# EAGLE library part CON_2X25_0.1"_SULLINS_SBH11-PBPC-D25-RA-BK (library WCSMain)
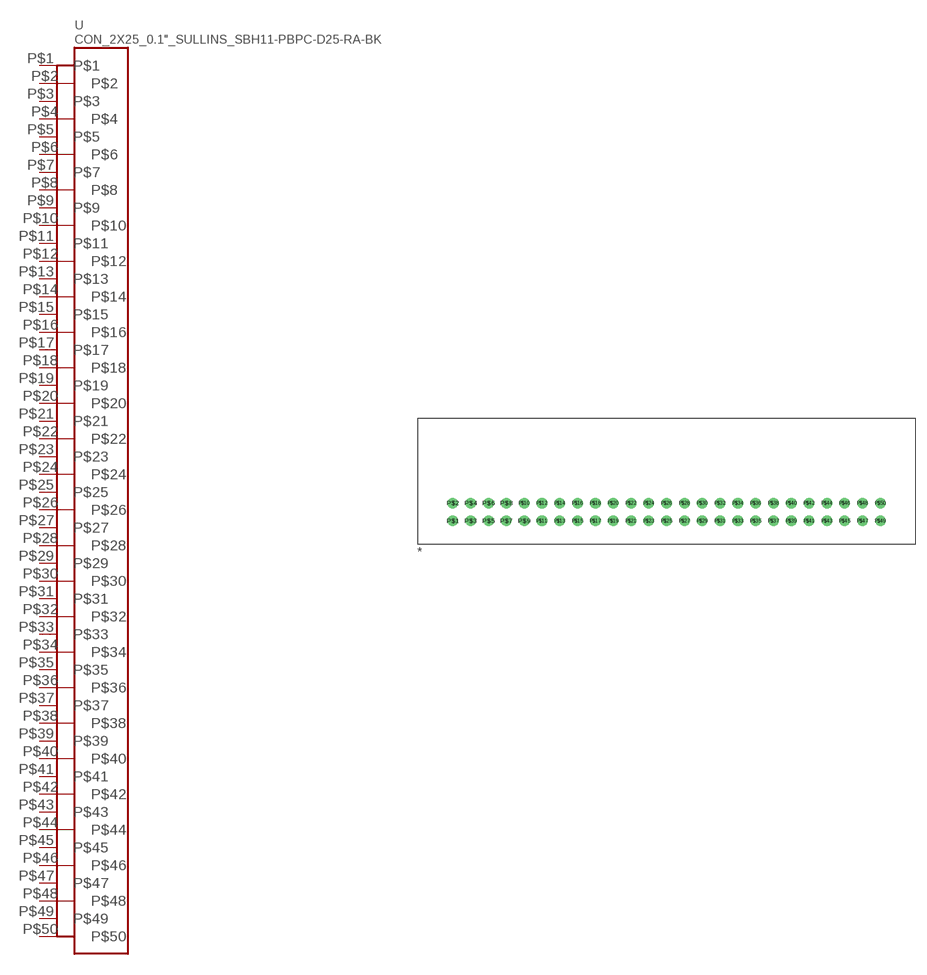
[diagram p22: symbol with the pads of CON_25X2_SULLINS_SBH11-PBPC-D25-RA-BK; footprint CON_25X2_SULLINS_SBH11-PBPC-D25-RA-BK]

Designator prefix -

## CON_2X25_0.1"_SULLINS_SBH11-PBPC-D25-RA-BK  [CON_25X2_SULLINS_SBH11-PBPC-D25-RA-BK]
P$1  P$1  pas
P$2  P$2  pas
P$3  P$3  pas
P$4  P$4  pas
P$5  P$5  pas
P$6  P$6  pas
P$7  P$7  pas
P$8  P$8  pas
P$9  P$9  pas
P$10  P$10  pas
P$11  P$11  pas
P$12  P$12  pas
P$13  P$13  pas
P$14  P$14  pas
P$15  P$15  pas
P$16  P$16  pas
P$17  P$17  pas
P$18  P$18  pas
P$19  P$19  pas
P$20  P$20  pas
P$21  P$21  pas
P$22  P$22  pas
P$23  P$23  pas
P$24  P$24  pas
P$25  P$25  pas
P$26  P$26  pas
P$27  P$27  pas
P$28  P$28  pas
P$29  P$29  pas
P$30  P$30  pas
P$31  P$31  pas
P$32  P$32  pas
P$33  P$33  pas
P$34  P$34  pas
P$35  P$35  pas
P$36  P$36  pas
P$37  P$37  pas
P$38  P$38  pas
P$39  P$39  pas
P$40  P$40  pas
P$41  P$41  pas
P$42  P$42  pas
P$43  P$43  pas
P$44  P$44  pas
P$45  P$45  pas
P$46  P$46  pas
P$47  P$47  pas
P$48  P$48  pas
P$49  P$49  pas
P$50  P$50  pas

## Footprint CON_25X2_SULLINS_SBH11-PBPC-D25-RA-BK (pad centres in mm)
drill 1: P$1 -30.48,-1.27; P$2 -30.48,1.27; P$3 -27.94,-1.27; P$4 -27.94,1.27; P$5 -25.4,-1.27; P$6 -25.4,1.27; P$7 -22.86,-1.27; P$8 -22.86,1.27; P$9 -20.32,-1.27; P$10 -20.32,1.27; P$11 -17.78,-1.27; P$12 -17.78,1.27; P$13 -15.24,-1.27; P$14 -15.24,1.27; P$15 -12.7,-1.27; P$16 -12.7,1.27; P$17 -10.16,-1.27; P$18 -10.16,1.27; P$19 -7.62,-1.27; P$20 -7.62,1.27; P$21 -5.08,-1.27; P$22 -5.08,1.27; P$23 -2.54,-1.27; P$24 -2.54,1.27; P$25 0,-1.27; P$26 0,1.27; P$27 2.54,-1.27; P$28 2.54,1.27; P$29 5.08,-1.27; P$30 5.08,1.27; P$31 7.62,-1.27; P$32 7.62,1.27; P$33 10.16,-1.27; P$34 10.16,1.27; P$35 12.7,-1.27; P$36 12.7,1.27; P$37 15.24,-1.27; P$38 15.24,1.27; P$39 17.78,-1.27; P$40 17.78,1.27; P$41 20.32,-1.27; P$42 20.32,1.27; P$43 22.86,-1.27; P$44 22.86,1.27; P$45 25.4,-1.27; P$46 25.4,1.27; P$47 27.94,-1.27; P$48 27.94,1.27; P$49 30.48,-1.27; P$50 30.48,1.27